# Altium schematic symbol library RV16A.SchLib: 1 symbol
Pins are listed as number, name and electrical type; pins without a type are passive.

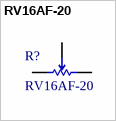
[diagram p0: symbol RV16AF-20]

## RV16AF-20
designator R?
Potentiometers 16mm Rotary Type, Metal ShaftSeries
footprint RV16AF-20xx-25
footprint RV16AF-20xx-20
footprint RV16AF-20xx-15
footprint RV16AF-20xx-10
pins: 1, 2, 3